# EAGLE library part BMP581 (library bosch)
PRESSURE SENSOR
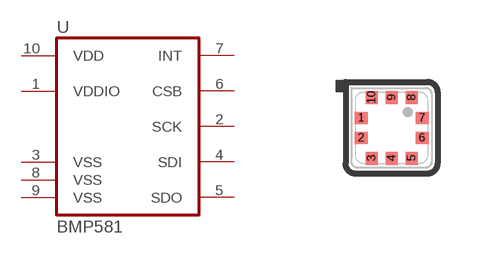
[diagram p0: symbol with the pads of 10-WFLGA; footprint 10-WFLGA]

Designator prefix U

## BMP581  [10-WFLGA]
1  VDDIO  pwr
2  SCK
3  VSS  pwr
4  SDI
5  SDO
6  CSB  in
7  INT  out
8  VSS  pwr
9  VSS  pwr
10  VDD  pwr

## Footprint 10-WFLGA (pad centres in mm)
PRESSURE SENSOR (2x2mm)
smd 0.325 x 0.3: 1 -0.762,0.25; 2 -0.762,-0.25; 6 0.762,-0.25; 7 0.762,0.25
smd 0.3 x 0.325: 3 -0.5,-0.762; 4 0,-0.762; 5 0.5,-0.762; 8 0.5,0.762; 9 0,0.762; 10 -0.5,0.762